# Altium footprint library BASIC Library.PCBLIB: 464 footprints (part 14 of 30)
Each footprint in its own frame and in the unit in brackets; x right, y up, seen from the top. Pads: shape width x height; smd on the part's side, far side on the other; paste and mask are expansions set on the pad; w line width, h text height; cw(c..) or ccw(c..) is an arc to the next point about the centre after c.
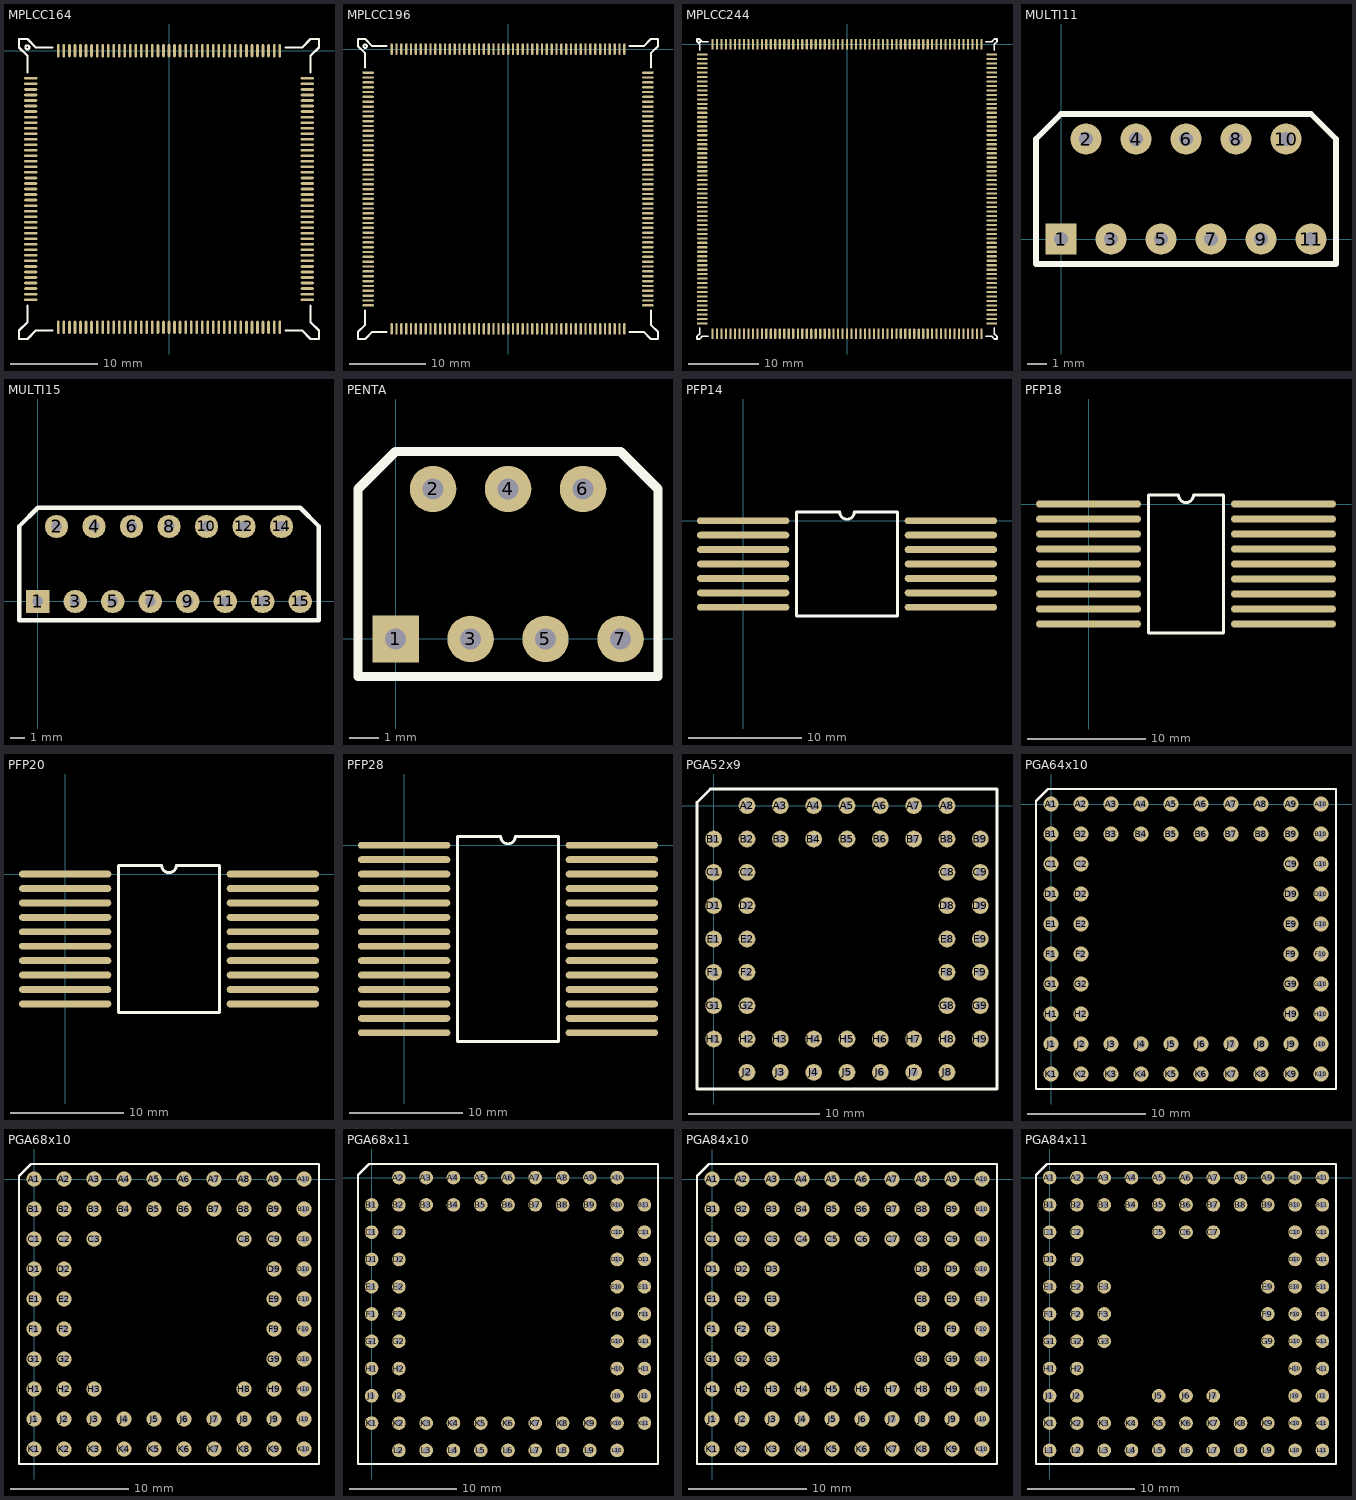
[diagram p13: the footprints below, top view; thin cyan lines are the x and y axes]

## MPLCC164 [mil]
pads (164):
  oval 12x60 smd: 1(0,0) 2(-25,0) 3(-50,0) 4(-75,0) 5(-100,0) 6(-125,0) 7(-150,0) 8(-175,0) 9(-200,0) 10(-225,0) 11(-250,0) 12(-275,0) 13(-300,0) 14(-325,0) 15(-350,0) 16(-375,0) 17(-400,0) 18(-425,0) 19(-450,0) 20(-475,0) 21(-500,0) 63(-500,-1250) 64(-475,-1250) 65(-450,-1250) 66(-425,-1250) 67(-400,-1250) 68(-375,-1250) 69(-350,-1250) 70(-325,-1250) 71(-300,-1250) 72(-275,-1250) 73(-250,-1250) 74(-225,-1250) 75(-200,-1250) 76(-175,-1250) 77(-150,-1250) 78(-125,-1250) 79(-100,-1250) 80(-75,-1250) 81(-50,-1250) 82(-25,-1250) 83(0,-1250) 84(25,-1250) 85(50,-1250) 86(75,-1250) 87(100,-1250) 88(125,-1250) 89(150,-1250) 90(175,-1250) 91(200,-1250) 92(225,-1250) 93(250,-1250) 94(275,-1250) 95(300,-1250) 96(325,-1250) 97(350,-1250) 98(375,-1250) 99(400,-1250) 100(425,-1250) 101(450,-1250) 102(475,-1250) 103(500,-1250) 145(500,0) 146(475,0) 147(450,0) 148(425,0) 149(400,0) 150(375,0) 151(350,0) 152(325,0) 153(300,0) 154(275,0) 155(250,0) 156(225,0) 157(200,0) 158(175,0) 159(150,0) 160(125,0) 161(100,0) 162(75,0) 163(50,0) 164(25,0)
  oval 60x12 smd: 22(-625,-125) 23(-625,-150) 24(-625,-175) 25(-625,-200) 26(-625,-225) 27(-625,-250) 28(-625,-275) 29(-625,-300) 30(-625,-325) 31(-625,-350) 32(-625,-375) 33(-625,-400) 34(-625,-425) 35(-625,-450) 36(-625,-475) 37(-625,-500) 38(-625,-525) 39(-625,-550) 40(-625,-575) 41(-625,-600) 42(-625,-625) 43(-625,-650) 44(-625,-675) 45(-625,-700) 46(-625,-725) 47(-625,-750) 48(-625,-775) 49(-625,-800) 50(-625,-825) 51(-625,-850) 52(-625,-875) 53(-625,-900) 54(-625,-925) 55(-625,-950) 56(-625,-975) 57(-625,-1000) 58(-625,-1025) 59(-625,-1050) 60(-625,-1075) 61(-625,-1100) 62(-625,-1125) 104(625,-1125) 105(625,-1100) 106(625,-1075) 107(625,-1050) 108(625,-1025) 109(625,-1000) 110(625,-975) 111(625,-950) 112(625,-925) 113(625,-900) 114(625,-875) 115(625,-850) 116(625,-825) 117(625,-800) 118(625,-775) 119(625,-750) 120(625,-725) 121(625,-700) 122(625,-675) 123(625,-650) 124(625,-625) 125(625,-600) 126(625,-575) 127(625,-550) 128(625,-525) 129(625,-500) 130(625,-475) 131(625,-450) 132(625,-425) 133(625,-400) 134(625,-375) 135(625,-350) 136(625,-325) 137(625,-300) 138(625,-275) 139(625,-250) 140(625,-225) 141(625,-200) 142(625,-175) 143(625,-150) 144(625,-125)
TopOverlay:
  circle w10: c-640,15 r9
  lines w10: -640,-1151 -640,-1227 -678,-1265 -678,-1303 -640,-1303 -602,-1265 -526,-1265 ; -640,-99 -640,-23 -678,15 -678,53 -640,53 -602,15 -526,15 ; 526,-1265 602,-1265 640,-1303 678,-1303 678,-1265 640,-1227 640,-1151 ; 526,15 602,15 640,53 678,53 678,15 640,-23 640,-99

## MPLCC196 [mil]
pads (196):
  oval 12x60 smd: 1(0,0) 2(-25,0) 3(-50,0) 4(-75,0) 5(-100,0) 6(-125,0) 7(-150,0) 8(-175,0) 9(-200,0) 10(-226,0) 11(-251,0) 12(-276,0) 13(-301,0) 14(-326,0) 15(-351,0) 16(-376,0) 17(-401,0) 18(-426,0) 19(-451,0) 20(-476,0) 21(-501,0) 22(-526,0) 23(-551,0) 24(-576,0) 25(-601,0) 75(-601,-1445) 76(-576,-1445) 77(-551,-1445) 78(-526,-1445) 79(-501,-1445) 80(-476,-1445) 81(-451,-1445) 82(-426,-1445) 83(-401,-1445) 84(-376,-1445) 85(-351,-1445) 86(-326,-1445) 87(-301,-1445) 88(-276,-1445) 89(-251,-1445) 90(-226,-1445) 91(-200,-1445) 92(-175,-1445) 93(-150,-1445) 94(-125,-1445) 95(-100,-1445) 96(-75,-1445) 97(-50,-1445) 98(-25,-1445) 99(0,-1445) 100(25,-1445) 101(50,-1445) 102(75,-1445) 103(100,-1445) 104(125,-1445) 105(150,-1445) 106(175,-1445) 107(200,-1445) 108(225,-1445) 109(250,-1445) 110(275,-1445) 111(300,-1445) 112(325,-1445) 113(350,-1445) 114(375,-1445) 115(400,-1445) 116(425,-1445) 117(450,-1445) 118(475,-1445) 119(500,-1445) 120(525,-1445) 121(550,-1445) 122(575,-1445) 123(600,-1445) 173(600,0) 174(575,0) 175(550,0) 176(525,0) 177(500,0) 178(475,0) 179(450,0) 180(425,0) 181(400,0) 182(375,0) 183(350,0) 184(325,0) 185(300,0) 186(275,0) 187(250,0) 188(225,0) 189(200,0) 190(175,0) 191(150,0) 192(125,0) 193(100,0) 194(75,0) 195(50,0) 196(25,0)
  oval 60x12 smd: 26(-723,-122) 27(-723,-147) 28(-723,-172) 29(-723,-197) 30(-723,-222) 31(-723,-247) 32(-723,-272) 33(-723,-297) 34(-723,-322) 35(-723,-347) 36(-723,-372) 37(-723,-397) 38(-723,-422) 39(-723,-447) 40(-723,-472) 41(-723,-497) 42(-723,-523) 43(-723,-548) 44(-723,-573) 45(-723,-598) 46(-723,-623) 47(-723,-648) 48(-723,-673) 49(-723,-698) 50(-723,-723) 51(-723,-748) 52(-723,-773) 53(-723,-798) 54(-723,-823) 55(-723,-848) 56(-723,-873) 57(-723,-898) 58(-723,-923) 59(-723,-948) 60(-723,-973) 61(-723,-998) 62(-723,-1023) 63(-723,-1048) 64(-723,-1073) 65(-723,-1098) 66(-723,-1123) 67(-723,-1148) 68(-723,-1173) 69(-723,-1198) 70(-723,-1223) 71(-723,-1248) 72(-723,-1273) 73(-723,-1298) 74(-723,-1323) 124(722,-1323) 125(722,-1298) 126(722,-1273) 127(722,-1248) 128(722,-1223) 129(722,-1198) 130(722,-1173) 131(722,-1148) 132(722,-1123) 133(722,-1098) 134(722,-1073) 135(722,-1048) 136(722,-1023) 137(722,-998) 138(722,-973) 139(722,-948) 140(722,-923) 141(722,-898) 142(722,-873) 143(722,-848) 144(722,-823) 145(722,-798) 146(722,-773) 147(722,-748) 148(722,-723) 149(722,-698) 150(722,-673) 151(722,-648) 152(722,-623) 153(722,-598) 154(722,-573) 155(722,-548) 156(722,-523) 157(722,-497) 158(722,-472) 159(722,-447) 160(722,-422) 161(722,-397) 162(722,-372) 163(722,-347) 164(722,-322) 165(722,-297) 166(722,-272) 167(722,-247) 168(722,-222) 169(722,-197) 170(722,-172) 171(722,-147) 172(722,-122)
TopOverlay:
  circle w10: c-738,15 r9
  lines w10: -738,-1349 -738,-1423 -775,-1460 -775,-1497 -738,-1497 -701,-1460 -627,-1460 ; -738,-96 -738,-22 -775,15 -775,52 -738,52 -701,15 -627,15 ; 626,-1460 700,-1460 737,-1497 774,-1497 774,-1460 737,-1423 737,-1349 ; 626,15 700,15 737,52 774,52 774,15 737,-22 737,-96

## MPLCC244 [mil]
pads (244):
  oval 12x60 smd: 1(0,0) 2(-25,0) 3(-50,0) 4(-75,0) 5(-100,0) 6(-125,0) 7(-150,0) 8(-175,0) 9(-200,0) 10(-225,0) 11(-250,0) 12(-275,0) 13(-301,0) 14(-326,0) 15(-351,0) 16(-376,0) 17(-401,0) 18(-426,0) 19(-451,0) 20(-476,0) 21(-501,0) 22(-526,0) 23(-551,0) 24(-576,0) 25(-601,0) 26(-626,0) 27(-651,0) 28(-676,0) 29(-701,0) 30(-726,0) 31(-751,0) 93(-751,-1615) 94(-726,-1615) 95(-701,-1615) 96(-676,-1615) 97(-651,-1615) 98(-626,-1615) 99(-601,-1615) 100(-576,-1615) 101(-551,-1615) 102(-526,-1615) 103(-501,-1615) 104(-476,-1615) 105(-451,-1615) 106(-426,-1615) 107(-401,-1615) 108(-376,-1615) 109(-351,-1615) 110(-326,-1615) 111(-301,-1615) 112(-275,-1615) 113(-250,-1615) 114(-225,-1615) 115(-200,-1615) 116(-175,-1615) 117(-150,-1615) 118(-125,-1615) 119(-100,-1615) 120(-75,-1615) 121(-50,-1615) 122(-25,-1615) 123(0,-1615) 124(25,-1615) 125(50,-1615) 126(75,-1615) 127(100,-1615) 128(125,-1615) 129(150,-1615) 130(175,-1615) 131(200,-1615) 132(225,-1615) 133(250,-1615) 134(275,-1615) 135(300,-1615) 136(325,-1615) 137(350,-1615) 138(375,-1615) 139(400,-1615) 140(425,-1615) 141(450,-1615) 142(475,-1615) 143(500,-1615) 144(525,-1615) 145(550,-1615) 146(575,-1615) 147(600,-1615) 148(625,-1615) 149(650,-1615) 150(675,-1615) 151(700,-1615) 152(725,-1615) 153(750,-1615) 215(750,0) 216(725,0) 217(700,0) 218(675,0) 219(650,0) 220(625,0) 221(600,0) 222(575,0) 223(550,0) 224(525,0) 225(500,0) 226(475,0) 227(450,0) 228(425,0) 229(400,0) 230(375,0) 231(350,0) 232(325,0) 233(300,0) 234(275,0) 235(250,0) 236(225,0) 237(200,0) 238(175,0) 239(150,0) 240(125,0) 241(100,0) 242(75,0) 243(50,0) 244(25,0)
  oval 60x12 smd: 32(-808,-57) 33(-808,-82) 34(-808,-107) 35(-808,-132) 36(-808,-157) 37(-808,-182) 38(-808,-207) 39(-808,-232) 40(-808,-257) 41(-808,-282) 42(-808,-307) 43(-808,-332) 44(-808,-357) 45(-808,-382) 46(-808,-407) 47(-808,-432) 48(-808,-457) 49(-808,-482) 50(-808,-507) 51(-808,-533) 52(-808,-558) 53(-808,-583) 54(-808,-608) 55(-808,-633) 56(-808,-658) 57(-808,-683) 58(-808,-708) 59(-808,-733) 60(-808,-758) 61(-808,-783) 62(-808,-808) 63(-808,-833) 64(-808,-858) 65(-808,-883) 66(-808,-908) 67(-808,-933) 68(-808,-958) 69(-808,-983) 70(-808,-1008) 71(-808,-1033) 72(-808,-1058) 73(-808,-1083) 74(-808,-1108) 75(-808,-1133) 76(-808,-1158) 77(-808,-1183) 78(-808,-1208) 79(-808,-1233) 80(-808,-1258) 81(-808,-1283) 82(-808,-1308) 83(-808,-1333) 84(-808,-1358) 85(-808,-1383) 86(-808,-1408) 87(-808,-1433) 88(-808,-1458) 89(-808,-1483) 90(-808,-1508) 91(-808,-1533) 92(-808,-1558) 154(807,-1558) 155(807,-1533) 156(807,-1508) 157(807,-1483) 158(807,-1458) 159(807,-1433) 160(807,-1408) 161(807,-1383) 162(807,-1358) 163(807,-1333) 164(807,-1308) 165(807,-1283) 166(807,-1258) 167(807,-1233) 168(807,-1208) 169(807,-1183) 170(807,-1158) 171(807,-1133) 172(807,-1108) 173(807,-1083) 174(807,-1058) 175(807,-1033) 176(807,-1008) 177(807,-983) 178(807,-958) 179(807,-933) 180(807,-908) 181(807,-883) 182(807,-858) 183(807,-833) 184(807,-808) 185(807,-783) 186(807,-758) 187(807,-733) 188(807,-708) 189(807,-683) 190(807,-658) 191(807,-633) 192(807,-608) 193(807,-583) 194(807,-558) 195(807,-533) 196(807,-507) 197(807,-482) 198(807,-457) 199(807,-432) 200(807,-407) 201(807,-382) 202(807,-357) 203(807,-332) 204(807,-307) 205(807,-282) 206(807,-257) 207(807,-232) 208(807,-207) 209(807,-182) 210(807,-157) 211(807,-132) 212(807,-107) 213(807,-82) 214(807,-57)
TopOverlay:
  circle w10: c-823,15 r3
  lines w10: -823,-1584 -823,-1615 -838,-1630 -838,-1645 -823,-1645 -808,-1630 -777,-1630 ; -823,-31 -823,0 -838,15 -838,30 -823,30 -808,15 -777,15 ; 776,-1630 807,-1630 822,-1645 837,-1645 837,-1630 822,-1615 822,-1584 ; 776,15 807,15 822,30 837,30 837,15 822,0 822,-31

## MULTI11 [mil]
pads (11):
  rect 62x62 hole 28: 1(0,0)
  round 62 hole 28: 2(50,200) 3(100,0) 4(150,200) 5(200,0) 6(250,200) 7(300,0) 8(350,200) 9(400,0) 10(450,200) 11(500,0)
TopOverlay:
  lines w12: -50,-50 550,-50 550,200 500,250 0,250 -50,200 -50,-50

## MULTI15 [mil]
pads (15):
  rect 62x62 hole 28: 1(0,0)
  round 62 hole 28: 2(50,200) 3(100,0) 4(150,200) 5(200,0) 6(250,200) 7(300,0) 8(350,200) 9(400,0) 10(450,200) 11(500,0) 12(550,200) 13(600,0) 14(650,200) 15(700,0)
TopOverlay:
  lines w12: -50,-50 750,-50 750,200 700,250 0,250 -50,200 -50,-50

## PENTA [mil]
pads (7):
  rect 62x62 hole 28: 1(0,0)
  round 62 hole 28: 2(50,200) 3(100,0) 4(150,200) 5(200,0) 6(250,200) 7(300,0)
TopOverlay:
  lines w12: -50,-50 350,-50 350,200 300,250 0,250 -50,200 -50,-50

## PFP14 [mil]
pads (14):
  oval 320x24 smd: 1(0,0) 2(0,-50) 3(0,-100) 4(0,-150) 5(0,-200) 6(0,-250) 7(0,-300) 8(720,-300) 9(720,-250) 10(720,-200) 11(720,-150) 12(720,-100) 13(720,-50) 14(720,0)
TopOverlay:
  lines w10: 185,-330 535,-330 535,30 385,30 cw(c360,30) 335,30 185,30 185,-330

## PFP18 [mil]
pads (18):
  oval 350x24 smd: 1(0,0) 2(0,-50) 3(0,-100) 4(0,-150) 5(0,-200) 6(0,-250) 7(0,-300) 8(0,-350) 9(0,-400) 10(650,-400) 11(650,-350) 12(650,-300) 13(650,-250) 14(650,-200) 15(650,-150) 16(650,-100) 17(650,-50) 18(650,0)
TopOverlay:
  lines w10: 200,-430 450,-430 450,30 350,30 cw(c325,30) 300,30 200,30 200,-430

## PFP20 [mil]
pads (20):
  oval 320x24 smd: 1(0,0) 2(0,-50) 3(0,-100) 4(0,-150) 5(0,-200) 6(0,-250) 7(0,-300) 8(0,-350) 9(0,-400) 10(0,-450) 11(720,-450) 12(720,-400) 13(720,-350) 14(720,-300) 15(720,-250) 16(720,-200) 17(720,-150) 18(720,-100) 19(720,-50) 20(720,0)
TopOverlay:
  lines w10: 185,-480 535,-480 535,30 385,30 cw(c360,30) 335,30 185,30 185,-480

## PFP28 [mil]
pads (28):
  oval 320x24 smd: 1(0,0) 2(0,-50) 3(0,-100) 4(0,-150) 5(0,-200) 6(0,-250) 7(0,-300) 8(0,-350) 9(0,-400) 10(0,-450) 11(0,-500) 12(0,-550) 13(0,-600) 14(0,-650) 15(720,-650) 16(720,-600) 17(720,-550) 18(720,-500) 19(720,-450) 20(720,-400) 21(720,-350) 22(720,-300) 23(720,-250) 24(720,-200) 25(720,-150) 26(720,-100) 27(720,-50) 28(720,0)
TopOverlay:
  lines w10: 185,-680 185,30 335,30 ccw(c360,30) 385,30 535,30 535,-680 185,-680

## PGA52x9 [mil]
pads (52):
  round 50 hole 25: A2(100,0) A3(200,0) A4(300,0) A5(400,0) A6(500,0) A7(600,0) A8(700,0) B1(0,-100) B2(100,-100) B3(200,-100) B4(300,-100) B5(400,-100) B6(500,-100) B7(600,-100) B8(700,-100) B9(800,-100) C1(0,-200) C2(100,-200) C8(700,-200) C9(800,-200) D1(0,-300) D2(100,-300) D8(700,-300) D9(800,-300) E1(0,-400) E2(100,-400) E8(700,-400) E9(800,-400) F1(0,-500) F2(100,-500) F8(700,-500) F9(800,-500) G1(0,-600) G2(100,-600) G8(700,-600) G9(800,-600) H1(0,-700) H2(100,-700) H3(200,-700) H4(300,-700) H5(400,-700) H6(500,-700) H7(600,-700) H8(700,-700) H9(800,-700) J2(100,-800) J3(200,-800) J4(300,-800) J5(400,-800) J6(500,-800) J7(600,-800) J8(700,-800)
TopOverlay:
  lines w8: -50,-850 -50,10 -10,50 850,50 850,-850 -50,-850

## PGA64x10 [mil]
pads (64):
  round 50 hole 25: A1(0,0) A2(100,0) A3(200,0) A4(300,0) A5(400,0) A6(500,0) A7(600,0) A8(700,0) A9(800,0) A10(900,0) B1(0,-100) B2(100,-100) B3(200,-100) B4(300,-100) B5(400,-100) B6(500,-100) B7(600,-100) B8(700,-100) B9(800,-100) B10(900,-100) C1(0,-200) C2(100,-200) C9(800,-200) C10(900,-200) D1(0,-300) D2(100,-300) D9(800,-300) D10(900,-300) E1(0,-400) E2(100,-400) E9(800,-400) E10(900,-400) F1(0,-500) F2(100,-500) F9(800,-500) F10(900,-500) G1(0,-600) G2(100,-600) G9(800,-600) G10(900,-600) H1(0,-700) H2(100,-700) H9(800,-700) H10(900,-700) J1(0,-800) J2(100,-800) J3(200,-800) J4(300,-800) J5(400,-800) J6(500,-800) J7(600,-800) J8(700,-800) J9(800,-800) J10(900,-800) K1(0,-900) K2(100,-900) K3(200,-900) K4(300,-900) K5(400,-900) K6(500,-900) K7(600,-900) K8(700,-900) K9(800,-900) K10(900,-900)
TopOverlay:
  lines w8: -50,-950 -50,10 -10,50 950,50 950,-950 -50,-950

## PGA68x10 [mil]
pads (68):
  round 50 hole 25: A1(0,0) A2(100,0) A3(200,0) A4(300,0) A5(400,0) A6(500,0) A7(600,0) A8(700,0) A9(800,0) A10(900,0) B1(0,-100) B2(100,-100) B3(200,-100) B4(300,-100) B5(400,-100) B6(500,-100) B7(600,-100) B8(700,-100) B9(800,-100) B10(900,-100) C1(0,-200) C2(100,-200) C3(200,-200) C8(700,-200) C9(800,-200) C10(900,-200) D1(0,-300) D2(100,-300) D9(800,-300) D10(900,-300) E1(0,-400) E2(100,-400) E9(800,-400) E10(900,-400) F1(0,-500) F2(100,-500) F9(800,-500) F10(900,-500) G1(0,-600) G2(100,-600) G9(800,-600) G10(900,-600) H1(0,-700) H2(100,-700) H3(200,-700) H8(700,-700) H9(800,-700) H10(900,-700) J1(0,-800) J2(100,-800) J3(200,-800) J4(300,-800) J5(400,-800) J6(500,-800) J7(600,-800) J8(700,-800) J9(800,-800) J10(900,-800) K1(0,-900) K2(100,-900) K3(200,-900) K4(300,-900) K5(400,-900) K6(500,-900) K7(600,-900) K8(700,-900) K9(800,-900) K10(900,-900)
TopOverlay:
  lines w8: -50,-950 950,-950 950,50 -10,50 -50,10 -50,-950

## PGA68x11 [mil]
pads (68):
  round 50 hole 25: A2(100,0) A3(200,0) A4(300,0) A5(400,0) A6(500,0) A7(600,0) A8(700,0) A9(800,0) A10(900,0) B1(0,-100) B2(100,-100) B3(200,-100) B4(300,-100) B5(400,-100) B6(500,-100) B7(600,-100) B8(700,-100) B9(800,-100) B10(900,-100) B11(1000,-100) C1(0,-200) C2(100,-200) C10(900,-200) C11(1000,-200) D1(0,-300) D2(100,-300) D10(900,-300) D11(1000,-300) E1(0,-400) E2(100,-400) E10(900,-400) E11(1000,-400) F1(0,-500) F2(100,-500) F10(900,-500) F11(1000,-500) G1(0,-600) G2(100,-600) G10(900,-600) G11(1000,-600) H1(0,-700) H2(100,-700) H10(900,-700) H11(1000,-700) J1(0,-800) J2(100,-800) J10(900,-800) J11(1000,-800) K1(0,-900) K2(100,-900) K3(200,-900) K4(300,-900) K5(400,-900) K6(500,-900) K7(600,-900) K8(700,-900) K9(800,-900) K10(900,-900) K11(1000,-900) L2(100,-1000) L3(200,-1000) L4(300,-1000) L5(400,-1000) L6(500,-1000) L7(600,-1000) L8(700,-1000) L9(800,-1000) L10(900,-1000)
TopOverlay:
  lines w8: -50,-1050 -50,10 -10,50 1050,50 1050,-1050 -50,-1050

## PGA84x10 [mil]
pads (84):
  round 50 hole 25: A1(0,0) A2(100,0) A3(200,0) A4(300,0) A5(400,0) A6(500,0) A7(600,0) A8(700,0) A9(800,0) A10(900,0) B1(0,-100) B2(100,-100) B3(200,-100) B4(300,-100) B5(400,-100) B6(500,-100) B7(600,-100) B8(700,-100) B9(800,-100) B10(900,-100) C1(0,-200) C2(100,-200) C3(200,-200) C4(300,-200) C5(400,-200) C6(500,-200) C7(600,-200) C8(700,-200) C9(800,-200) C10(900,-200) D1(0,-300) D2(100,-300) D3(200,-300) D8(700,-300) D9(800,-300) D10(900,-300) E1(0,-400) E2(100,-400) E3(200,-400) E8(700,-400) E9(800,-400) E10(900,-400) F1(0,-500) F2(100,-500) F3(200,-500) F8(700,-500) F9(800,-500) F10(900,-500) G1(0,-600) G2(100,-600) G3(200,-600) G8(700,-600) G9(800,-600) G10(900,-600) H1(0,-700) H2(100,-700) H3(200,-700) H4(300,-700) H5(400,-700) H6(500,-700) H7(600,-700) H8(700,-700) H9(800,-700) H10(900,-700) J1(0,-800) J2(100,-800) J3(200,-800) J4(300,-800) J5(400,-800) J6(500,-800) J7(600,-800) J8(700,-800) J9(800,-800) J10(900,-800) K1(0,-900) K2(100,-900) K3(200,-900) K4(300,-900) K5(400,-900) K6(500,-900) K7(600,-900) K8(700,-900) K9(800,-900) K10(900,-900)
TopOverlay:
  lines w8: -50,-950 -50,10 -10,50 950,50 950,-950 -50,-950

## PGA84x11 [mil]
pads (84):
  round 50 hole 25: A1(0,0) A2(100,0) A3(200,0) A4(300,0) A5(400,0) A6(500,0) A7(600,0) A8(700,0) A9(800,0) A10(900,0) A11(1000,0) B1(0,-100) B2(100,-100) B3(200,-100) B4(300,-100) B5(400,-100) B6(500,-100) B7(600,-100) B8(700,-100) B9(800,-100) B10(900,-100) B11(1000,-100) C1(0,-200) C2(100,-200) C5(400,-200) C6(500,-200) C7(600,-200) C10(900,-200) C11(1000,-200) D1(0,-300) D2(100,-300) D10(900,-300) D11(1000,-300) E1(0,-400) E2(100,-400) E3(200,-400) E9(800,-400) E10(900,-400) E11(1000,-400) F1(0,-500) F2(100,-500) F3(200,-500) F9(800,-500) F10(900,-500) F11(1000,-500) G1(0,-600) G2(100,-600) G3(200,-600) G9(800,-600) G10(900,-600) G11(1000,-600) H1(0,-700) H2(100,-700) H10(900,-700) H11(1000,-700) J1(0,-800) J2(100,-800) J5(400,-800) J6(500,-800) J7(600,-800) J10(900,-800) J11(1000,-800) K1(0,-900) K2(100,-900) K3(200,-900) K4(300,-900) K5(400,-900) K6(500,-900) K7(600,-900) K8(700,-900) K9(800,-900) K10(900,-900) K11(1000,-900) L1(0,-1000) L2(100,-1000) L3(200,-1000) L4(300,-1000) L5(400,-1000) L6(500,-1000) L7(600,-1000) L8(700,-1000) L9(800,-1000) L10(900,-1000) L11(1000,-1000)
TopOverlay:
  lines w8: -50,-1050 -50,10 -10,50 1050,50 1050,-1050 -50,-1050